# Altium footprint library 研发中心PCB库文件.PcbLib: 333 footprints (part 14 of 21)
Each footprint in its own frame and in the unit in brackets; x right, y up, seen from the top. Pads: shape width x height; smd on the part's side, far side on the other; paste and mask are expansions set on the pad; w line width, h text height; cw(c..) or ccw(c..) is an arc to the next point about the centre after c.
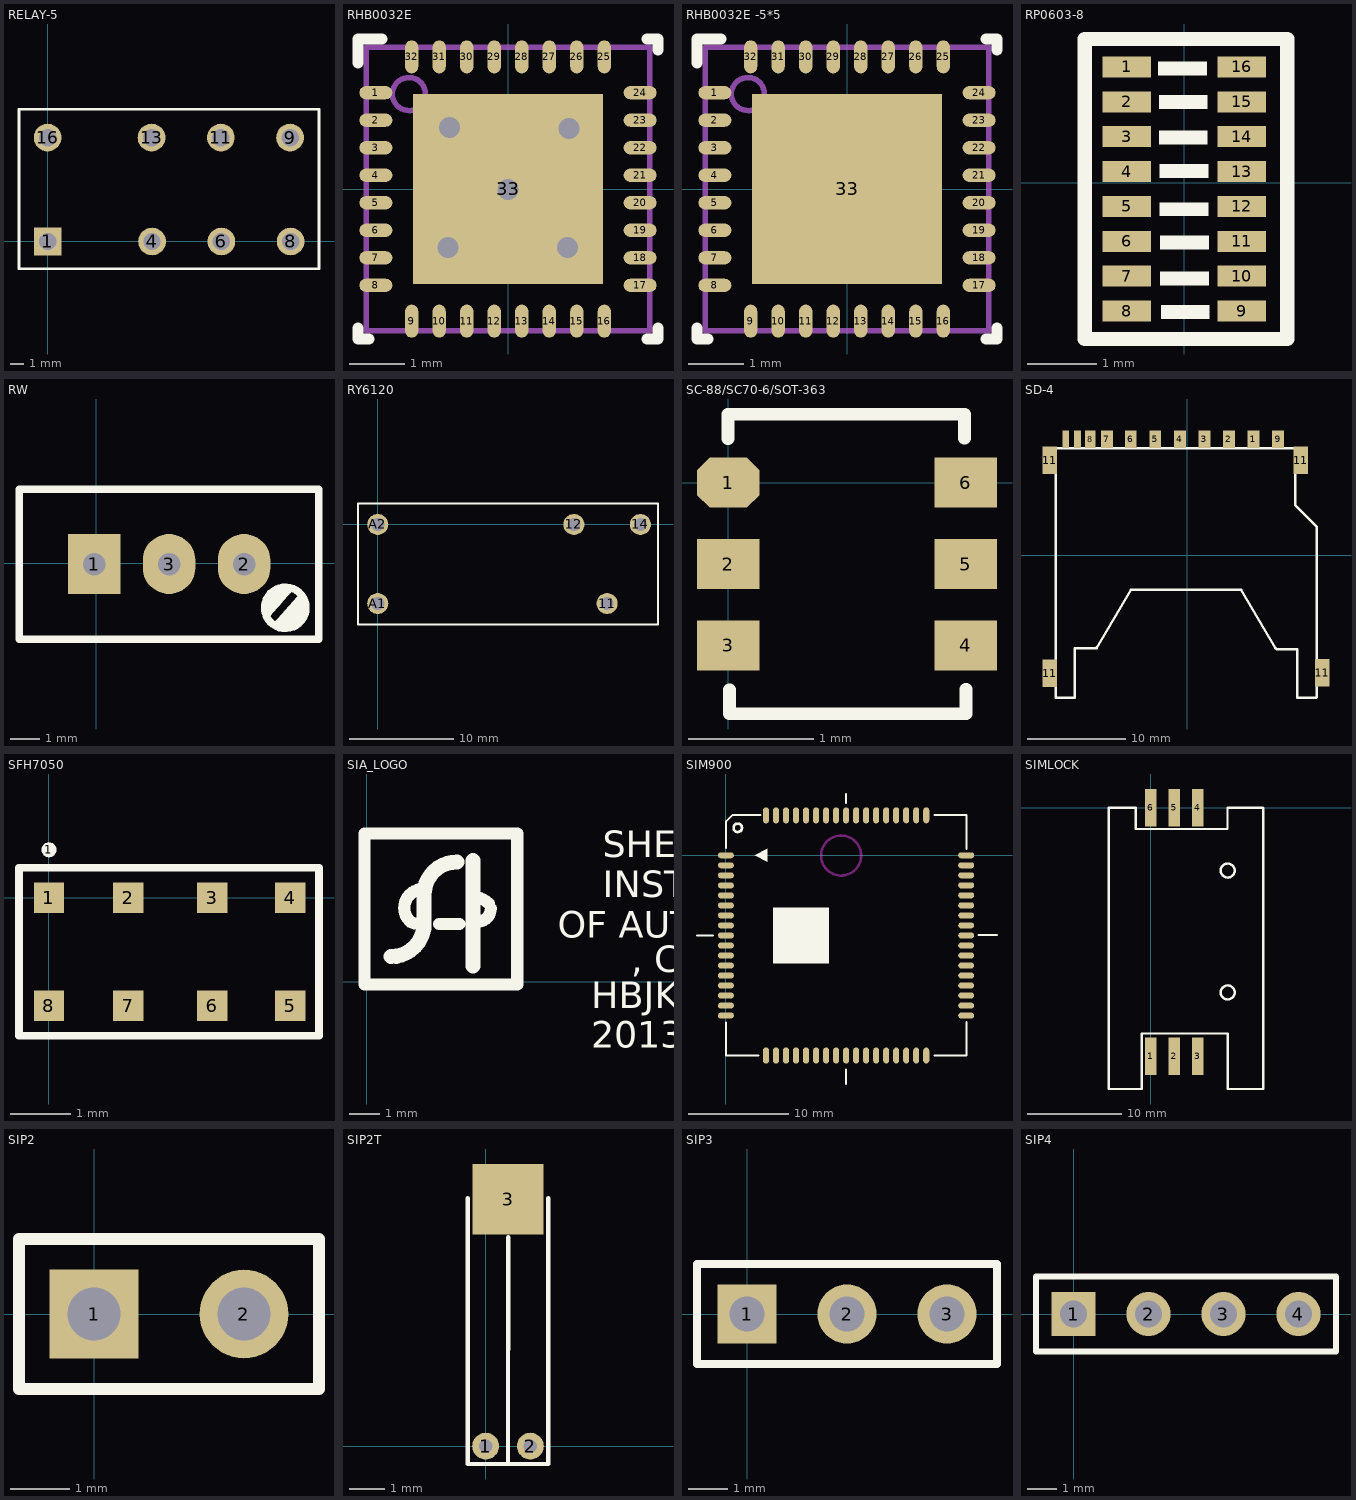
[diagram p13: the footprints below, top view; thin cyan lines are the x and y axes]

## RELAY-5 [mil]
pads (8):
  rect 80x80 hole 50: 1(0,0)
  round 80 hole 50: 4(301.57,0) 6(501.57,0) 8(701.58,0) 9(700,300) 11(500,300) 13(300,300) 16(0,300)
Top Overlay:
  lines w7.87: -82.68,-78.74 783.46,-78.74 783.46,381.89 -82.68,381.89 -82.68,-78.74

## RHB0032E [mm] "U?"
pads (33):
  oval 0.6x0.24 smd paste+0 mask+0.051: 1(-2.4,1.75) 2(-2.4,1.25) 3(-2.4,0.75) 4(-2.4,0.25) 5(-2.4,-0.25) 6(-2.4,-0.75) 7(-2.4,-1.25) 8(-2.4,-1.75) 17(2.4,-1.75) 18(2.4,-1.25) 19(2.4,-0.75) 20(2.4,-0.25) 21(2.4,0.25) 22(2.4,0.75) 23(2.4,1.25) 24(2.4,1.75)
  oval 0.24x0.6 smd paste+0 mask+0.051: 9(-1.75,-2.4) 10(-1.25,-2.4) 11(-0.75,-2.4) 12(-0.25,-2.4) 13(0.25,-2.4) 14(0.75,-2.4) 15(1.25,-2.4) 16(1.75,-2.4) 25(1.75,2.4) 26(1.25,2.4) 27(0.75,2.4) 28(0.25,2.4) 29(-0.25,2.4) 30(-0.75,2.4) 31(-1.25,2.4) 32(-1.75,2.4)
  rect 3.45x3.45 smd paste-1.712 mask+0.051: 33(0,0)
via -1.086,-1.06 diameter 0.762 hole 0.381
via 1.082,-1.06 diameter 0.762 hole 0.381
via 1.108,1.095 diameter 0.762 hole 0.381
via -1.067,1.121 diameter 0.762 hole 0.381
via 0.001,-0.012 diameter 0.762 hole 0.381
Top Overlay:
  lines w0.2: -2.725,-2.525 -2.725,-2.725 -2.525,-2.725 ; -2.725,2.29 -2.725,2.725 -2.29,2.725 ; 2.525,-2.725 2.725,-2.725 2.725,-2.525 ; 2.525,2.725 2.725,2.725 2.725,2.525
Top Paste:
  region: 0.1,1.586 0.1,0.1 1.586,0.1 1.586,1.586
  region: -0.1,0.1 -0.1,1.586 -1.586,1.586 -1.586,0.1
  region: -0.1,-1.586 -0.1,-0.1 -1.586,-0.1 -1.586,-1.586
  region: 0.1,-0.1 0.1,-1.586 1.586,-1.586 1.586,-0.1
Mechanical 1:
  circle w0.1: c-1.8,1.725 r0.3
  lines w0.1: -2.575,-2.575 2.575,-2.575 2.575,2.575 -2.575,2.575 -2.575,-2.575

## RHB0032E -5*5 [mm] "U?"
pads (33):
  oval 0.6x0.24 smd paste+0 mask+0.051: 1(-2.4,1.75) 2(-2.4,1.25) 3(-2.4,0.75) 4(-2.4,0.25) 5(-2.4,-0.25) 6(-2.4,-0.75) 7(-2.4,-1.25) 8(-2.4,-1.75) 17(2.4,-1.75) 18(2.4,-1.25) 19(2.4,-0.75) 20(2.4,-0.25) 21(2.4,0.25) 22(2.4,0.75) 23(2.4,1.25) 24(2.4,1.75)
  oval 0.24x0.6 smd paste+0 mask+0.051: 9(-1.75,-2.4) 10(-1.25,-2.4) 11(-0.75,-2.4) 12(-0.25,-2.4) 13(0.25,-2.4) 14(0.75,-2.4) 15(1.25,-2.4) 16(1.75,-2.4) 25(1.75,2.4) 26(1.25,2.4) 27(0.75,2.4) 28(0.25,2.4) 29(-0.25,2.4) 30(-0.75,2.4) 31(-1.25,2.4) 32(-1.75,2.4)
  rect 3.45x3.45 smd paste-1.712 mask+0.051: 33(0,0)
Top Overlay:
  lines w0.2: -2.725,-2.525 -2.725,-2.725 -2.525,-2.725 ; -2.725,2.29 -2.725,2.725 -2.29,2.725 ; 2.525,-2.725 2.725,-2.725 2.725,-2.525 ; 2.525,2.725 2.725,2.725 2.725,2.525
Top Paste:
  region: 0.1,-0.1 0.1,-1.586 1.586,-1.586 1.586,-0.1
  region: -0.1,-1.586 -0.1,-0.1 -1.586,-0.1 -1.586,-1.586
  region: -0.1,0.1 -0.1,1.586 -1.586,1.586 -1.586,0.1
  region: 0.1,1.586 0.1,0.1 1.586,0.1 1.586,1.586
Mechanical 1:
  circle w0.1: c-1.8,1.725 r0.3
  lines w0.1: -2.575,-2.575 -2.575,2.575 2.575,2.575 2.575,-2.575 -2.575,-2.575

## RP0603-8 [mm]
pads (16):
  rect 0.7x0.3 smd: 1(-0.826,1.661) 2(-0.826,1.161) 3(-0.826,0.661) 4(-0.826,0.161) 5(-0.826,-0.339) 6(-0.826,-0.839) 7(-0.826,-1.339) 8(-0.826,-1.839) 9(0.824,-1.839) 10(0.824,-1.339) 11(0.824,-0.839) 12(0.824,-0.339) 13(0.824,0.161) 14(0.824,0.661) 15(0.824,1.161) 16(0.824,1.661)
Top Overlay:
  region: 0.364,-1.95 0.364,-1.75 -0.336,-1.75 -0.336,-1.95
  region: 0.354,-1.469 0.354,-1.269 -0.346,-1.269 -0.346,-1.469
  region: 0.354,-0.959 0.354,-0.759 -0.346,-0.759 -0.346,-0.959
  region: 0.344,-0.48 0.344,-0.28 -0.356,-0.28 -0.356,-0.48
  region: 0.344,0.07 0.344,0.27 -0.356,0.27 -0.356,0.07
  region: 0.334,0.551 0.334,0.751 -0.366,0.751 -0.366,0.551
  region: 0.334,1.061 0.334,1.261 -0.366,1.261 -0.366,1.061
  region: 0.324,1.54 0.324,1.74 -0.376,1.74 -0.376,1.54
  lines w0.203: -1.426,-2.239 -1.426,2.061 1.474,2.061 1.474,-2.239 -1.426,-2.239

## RW [mil]
pads (3):
  rect 70x80 hole 30: 1(-3.11,-0.67)
  oval 70x80 hole 30: 2(196.89,-0.67) 3(96.89,-0.67)
Top Overlay:
  circle w10: c251.97,-59.06 r27.56
  lines w10: 241.08,-52.38 228.35,-51.18 ; 253.92,-73.55 269.36,-63.3 240.16,-82.68 ; 228.35,-66.93 255.91,-35.43 ; 228.35,-66.93 255.91,-35.43 ; 228.35,-66.93 228.35,-51.18 ; 228.35,-51.18 255.91,-35.43 ; 240.16,-82.68 267.72,-74.8 271.65,-47.24 240.16,-82.68 ; -103.11,-100.67 96.89,-100.67 296.89,-100.67 296.89,99.33 -103.11,99.33 -103.11,-100.67

## RY6120 [mil]
pads (5):
  round 80 hole 50: 11(870.08,-300) 12(744.09,0) 14(996.06,0) A1(0,-300) A2(0,0)
Top Overlay:
  lines w7.87: -74.8,-378.74 -74.8,78.74 1062.99,78.74 1062.99,-378.74 -74.8,-378.74

## SC-88/SC70-6/SOT-363 [mm]
pads (6):
  oct 0.5x0.4 smd: 1(0,0)
  rect 0.5x0.4 smd: 2(0,-0.65) 3(0,-1.3) 4(1.9,-1.3) 5(1.9,-0.65) 6(1.9,0)
Top Overlay:
  lines w0.102: -0.002,0.352 -0.002,0.548 1.89,0.548 1.89,0.357 ; 0.01,-1.657 0.01,-1.848 1.902,-1.848 1.902,-1.652

## SD-4 [mm]
pads (15):
  rect 1.2x1.8 smd: 1(6.756,11.817) 2(4.267,11.817) 3(1.773,11.808) 4(-0.727,11.808) 5(-3.227,11.808) 6(-5.727,11.808) 7(-8.152,11.808) 9(9.273,11.808)
  rect 1.1x1.8 smd: 8(-9.856,11.817)
  rect 0.7x1.8 smd: 10(-11.152,11.808) 12(-12.345,11.817)
  rect 1.5x2.8 smd: 11(-13.97,-12.017) 11(-13.97,9.674) 11(11.582,9.674) 11(13.766,-11.966)
Top Overlay:
  lines w0.254: -11.402,-9.483 -11.402,-14.483 -13.375,-14.483 -13.375,10.903 -13.361,10.917 10.998,10.917 10.998,5.107 13.187,2.918 13.198,2.918 13.198,-14.456 13.171,-14.483 11.198,-14.483 11.198,-9.584 9.156,-9.584 8.998,-9.426 ; -11.351,-9.477 -9.309,-9.477 -9.151,-9.319 ; -9.202,-9.477 -5.69,-3.483 ; -5.702,-3.483 5.498,-3.483 8.998,-9.477
Multi-Layer:
  circle w0.254: c9.398,8.557 r0.82
  circle w0.254: c-11.634,8.517 r0.58

## SFH7050 [mil]
pads (9):
  rect 20x20 smd: 1(0,0.13) 2(52,0) 3(107,0) 4(158.18,0) 5(158.18,-70.87) 6(107,-70.87) 7(52,-70.87) 8(0,-70.87)
  round 10 on Top Overlay: 1(0,31.5)
Top Overlay:
  lines w5: -19.68,-90.55 -19.68,19.68 177.17,19.68 177.17,-90.55 -19.68,-90.55

## SIA_LOGO [mm]
Top Overlay:
  lines w0.025: 4.045,2.595 cw(c3.891,2.441) 4.109,2.441 4.109,2.431
  lines w0.2: 1.631,1.935 1.899,1.935
  lines w0.4: 1.631,1.935 cw(c1.631,2.242) 1.415,2.025 cw(c1.839,2.449) 1.239,2.449 cw(c1.865,2.449) 1.422,2.892 cw(c1.899,2.415) 1.899,3.09 ; 2.388,1.921 3.068,1.921 ; 3.525,2.81 cw(c3.525,2.074) 4.045,2.595 ; 3.675,1.998 ccw(c3.675,2.431) 3.982,2.125 ccw(c3.675,2.431) 4.109,2.431 ; -0.076,-0.081 -0.076,4.919 4.986,4.919 4.986,-0.081 -0.076,-0.081
  lines w0.5: 0.802,0.838 ccw(c0.802,1.935) 1.899,1.935 1.899,2.887 ; 1.894,2.882 cw(c2.991,2.882) 2.991,3.979 ; 3.525,0.53 3.525,4.03
  text "2013-04-25" at 7.442,-2.184 h0.89
  text "HBJK_SCY_01" at 7.442,-0.865 h0.89
  text "SHENYANG" at 7.823,4.14 h0.89
  text "OF AUTOMATION" at 6.325,1.468 h0.89
  text "INSTITUTE" at 7.823,2.804 h0.89
  text ", CAS" at 8.763,0.326 h0.89

## SIM900 [mm]
pads (68):
  oval 1.6x0.6 smd: 1(0,0) 2(0,-1) 3(0,-2) 4(0,-3) 5(0,-4) 6(0,-5) 7(0,-6) 8(0,-7) 9(0,-8) 10(0,-9) 11(0,-10) 12(0,-11) 13(0,-12) 14(0,-13) 15(0,-14) 16(0,-15) 17(0,-16) 35(23.989,-16) 36(23.989,-15) 37(23.989,-14) 38(23.989,-13) 39(23.989,-12) 40(23.989,-11) 41(23.989,-10) 42(23.989,-9) 43(23.989,-8) 44(23.989,-7) 45(23.989,-6) 46(23.989,-5) 47(23.989,-4) 48(23.989,-3) 49(23.989,-2) 50(23.989,-1) 51(23.989,0)
  oval 0.6x1.6 smd: 18(4,-19.989) 19(5,-19.989) 20(6,-19.989) 21(7,-19.989) 22(8,-19.989) 23(9,-19.989) 24(10,-19.989) 25(11,-19.989) 26(12,-19.989) 27(13,-19.989) 28(14,-19.989) 29(15,-19.989) 30(16,-19.989) 31(17,-19.989) 32(18,-19.989) 33(19,-19.989) 34(20,-19.989) 52(20,3.989) 53(19,3.989) 54(18,3.989) 55(17,3.989) 56(16,3.989) 57(15,3.989) 58(14,3.989) 59(13,3.989) 60(12,3.989) 61(11,3.989) 62(10,3.989) 63(9,3.989) 64(8,3.989) 65(7,3.989) 66(6,3.989) 67(5,3.989) 68(4,3.989)
Top Overlay:
  circle w0.254: c1.186,2.744 r0.426
  rectangle: 4.7,-10.789 10.3,-5.189
  region: 2.881,0.001 4.151,-0.634 4.151,0.636
  lines w0.2: 0,-16.687 0,-20 3.237,-20 ; 0,0.712 0,3.354 0.646,4 3.44,4 ; 20.814,-20 24,-20 24,-16.661 ; 20.839,4 24,4 24,0.611
  lines w0.203: -2.884,-8 -1.31,-8 ; 12,-22.834 12,-21.386 ; 12,5.208 12,6.122 ; 25.208,-7.949 27.062,-7.949
Keep-Out Layer:
  circle w0.254: c11.5,-0.024 r2

## SIMLOCK [mm]
pads (6):
  rect 1.25x4 smd: 1(0,-26.5) 2(2.5,-26.5) 3(5,-26.5) 4(5,0) 5(2.5,0) 6(0,0)
Top Overlay:
  circle w0.254: c8.2,-6.7 r0.75
  circle w0.254: c8.2,-19.7 r0.75
  lines w0.254: -4.5,-29.997 -3.48,-29.997 -0.991,-29.997 -0.991,-24.257 -0.991,-24.079 8.204,-24.079 8.204,-30 11.997,-30 11.997,-0.034 11.963,0 8.179,0 8.179,-2.261 7.518,-2.261 -1.499,-2.261 ; -4.496,-30 -4.496,0 -1.626,0 -1.626,-2.261

## SIP2 [mm]
pads (2):
  rect 1.5x1.5 hole 0.9: 1(0,0)
  round 1.5 hole 0.9: 2(2.54,0)
Top Overlay:
  lines w0.2: -1.27,-1.27 3.81,-1.27 3.81,1.27 -1.27,1.27 -1.27,-1.27

## SIP2T [mil]
pads (3):
  round 30 hole 15: 1(0,0) 2(50,0)
  rect 78.74x78.74 smd: 3(25,275.59)
Top Overlay:
  lines w5: -19.88,276.78 -20,-20 70,-20 69.92,276.78 ; 25,-20 25.02,232.95

## SIP3 [mm]
pads (3):
  rect 1.5x1.5 hole 0.9: 1(0,0)
  round 1.5 hole 0.9: 2(2.54,0) 3(5.08,0)
Top Overlay:
  lines w0.2: -1.27,-1.27 -1.27,1.27 6.35,1.27 6.35,-1.27 -1.27,-1.27

## SIP4 [mm]
pads (4):
  rect 1.5x1.5 hole 0.9: 1(0,0)
  round 1.5 hole 0.9: 2(2.54,0) 3(5.08,0) 4(7.62,0)
Top Overlay:
  lines w0.2: -1.27,-1.27 8.89,-1.27 8.89,1.27 -1.27,1.27 -1.27,-1.27